# Altium schematic symbol library WR-USB_USB 3.0.SchLib: 11 symbols
Pins are listed as number, name and electrical type; pins without a type are passive.

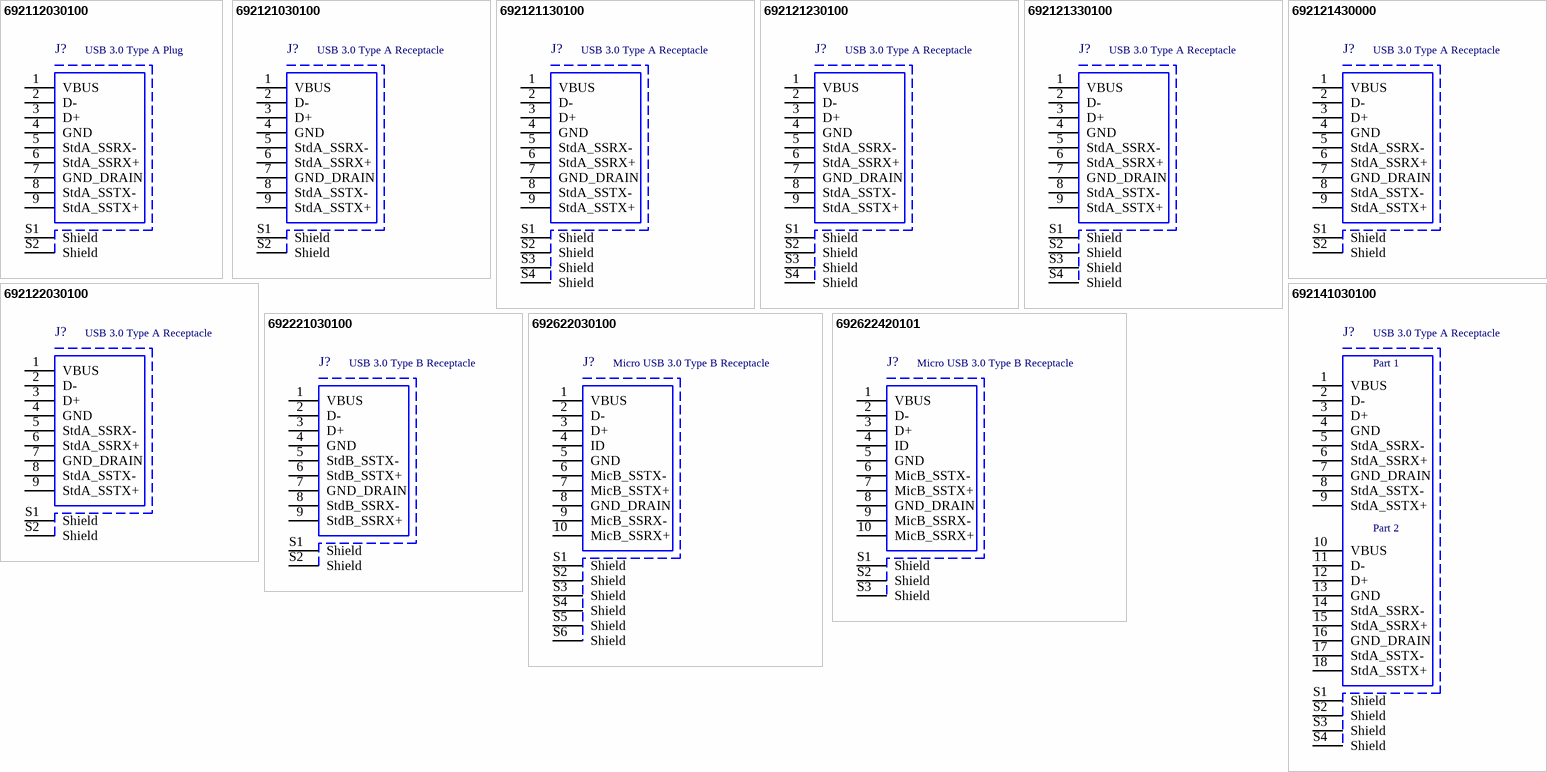
[diagram p0: symbols 692112030100 to 692622420101]

## 692112030100
designator J?, comment USB 3.0 Type A Plug
USB 3.0 Type A, Plug, Horizontal, SMT; Manufacturer: Wurth Elektronik; Manufacturer Part Number: 692112030100; Rated Current: 1.8A; Pin Number: 9; Interface Type: Type A; Working Voltage: 30VAC; ComponentLink1Description: Manufacturer; ComponentLink1URL: http://www.we-online.de; ComponentLink2Description: Datasheet; ComponentLink2URL: https://katalog.we-online.com/em/datasheet/692112030100.pdf; Published Date: September 2019; Gender: Plug; Type: Horizontal; Packaging: Tray; Operating Temperature: -20 to +85degC; Mounting Technology: SMT; Application: USB 3.0
footprint 692112030100
pins: 1 VBUS, 2 D-, 3 D+, 4 GND, 5 StdA_SSRX-, 6 StdA_SSRX+, 7 GND_DRAIN, 8 StdA_SSTX-, 9 StdA_SSTX+, S1 Shield, S2 Shield

## 692121030100
designator J?, comment USB 3.0 Type A Receptacle
USB 3.0 Type A, Receptacle, Horizontal, THT; Manufacturer: Wurth Elektronik; Manufacturer Part Number: 692121030100; Rated Current: 1.8A; Pin Number: 9; Interface Type: Type A; Working Voltage: 30VAC; ComponentLink1Description: Manufacturer; ComponentLink1URL: http://www.we-online.de; ComponentLink2Description: Datasheet; ComponentLink2URL: https://katalog.we-online.com/em/datasheet/692121030100.pdf; Published Date: September 2019; Gender: Receptacle; Type: Horizontal; Packaging: Tape and Reel; Operating Temperature: -20 to +85degC; Mounting Technology: THT; Application: USB 3.0
footprint 692121030100
pins: 1 VBUS, 2 D-, 3 D+, 4 GND, 5 StdA_SSRX-, 6 StdA_SSRX+, 7 GND_DRAIN, 8 StdA_SSTX-, 9 StdA_SSTX+, S1 Shield, S2 Shield

## 692121130100
designator J?, comment USB 3.0 Type A Receptacle
USB 3.0 Type A, Receptacle, Reverse Horizontal, THR, with Offset 0.14mm; Manufacturer: Wurth Elektronik; Manufacturer Part Number: 692121130100; Rated Current: 1.8A; Pin Number: 9; Interface Type: Type A; Working Voltage: 30VAC; ComponentLink1Description: Manufacturer; ComponentLink1URL: http://www.we-online.de; ComponentLink2Description: Datasheet; ComponentLink2URL: https://katalog.we-online.com/em/datasheet/692121130100.pdf; Published Date: September 2019; Gender: Receptacle; Type: Reverse Horizontal; Packaging: Tape and Reel; Operating Temperature: -20 to +85degC; Mounting Technology: THR; Application: USB 3.0
footprint 692121130100
pins: 1 VBUS, 2 D-, 3 D+, 4 GND, 5 StdA_SSRX-, 6 StdA_SSRX+, 7 GND_DRAIN, 8 StdA_SSTX-, 9 StdA_SSTX+, S1 Shield, S2 Shield, S3 Shield, S4 Shield

## 692121230100
designator J?, comment USB 3.0 Type A Receptacle
USB 3.0 Type A, Receptacle, Horizontal, THR, with Offset 1.04mm; Manufacturer: Wurth Elektronik; Manufacturer Part Number: 692121230100; Rated Current: 1.8A; Pin Number: 9; Interface Type: Type A; Working Voltage: 30VAC; ComponentLink1Description: Manufacturer; ComponentLink1URL: http://www.we-online.de; ComponentLink2Description: Datasheet; ComponentLink2URL: https://katalog.we-online.com/em/datasheet/692121230100.pdf; Published Date: September 2019; Gender: Receptacle; Type: Horizontal; Packaging: Tape and Reel; Operating Temperature: -20 to +85degC; Mounting Technology: THR; Application: USB 3.0
footprint 692121230100
pins: 1 VBUS, 2 D-, 3 D+, 4 GND, 5 StdA_SSRX-, 6 StdA_SSRX+, 7 GND_DRAIN, 8 StdA_SSTX-, 9 StdA_SSTX+, S1 Shield, S2 Shield, S3 Shield, S4 Shield

## 692121330100
designator J?, comment USB 3.0 Type A Receptacle
USB 3.0 Type A, Receptacle, Reverse Horizontal, THR, with Offset 1.75mm; Manufacturer: Wurth Elektronik; Manufacturer Part Number: 692121330100; Rated Current: 1.8A; Pin Number: 9; Interface Type: Type A; Working Voltage: 30VAC; ComponentLink1Description: Manufacturer; ComponentLink1URL: http://www.we-online.de; ComponentLink2Description: Datasheet; ComponentLink2URL: https://katalog.we-online.com/em/datasheet/692121330100.pdf; Published Date: September 2019; Gender: Receptacle; Type: Reverse Horizontal; Packaging: Tape and Reel; Operating Temperature: -20 to +85degC; Mounting Technology: THR; Application: USB 3.0
footprint 692121330100
pins: 1 VBUS, 2 D-, 3 D+, 4 GND, 5 StdA_SSRX-, 6 StdA_SSRX+, 7 GND_DRAIN, 8 StdA_SSTX-, 9 StdA_SSTX+, S1 Shield, S2 Shield, S3 Shield, S4 Shield

## 692121430000
designator J?, comment USB 3.0 Type A Receptacle
USB 3.0 Type A, Receptacle, Vertical, THT; Manufacturer: Wurth Elektronik; Manufacturer Part Number: 692121430000; Rated Current: 1.8A; Pin Number: 9; Interface Type: Type A; Working Voltage: 30VAC; ComponentLink1Description: Manufacturer; ComponentLink1URL: http://www.we-online.de; ComponentLink2Description: Datasheet; ComponentLink2URL: https://katalog.we-online.com/em/datasheet/692121430000.pdf; Published Date: September 2019; Gender: Receptacle; Type: Vertical; Packaging: Tray; Operating Temperature: -20 to +85degC; Mounting Technology: THT; Application: USB 3.0
footprint 692121430000
pins: 1 VBUS, 2 D-, 3 D+, 4 GND, 5 StdA_SSRX-, 6 StdA_SSRX+, 7 GND_DRAIN, 8 StdA_SSTX-, 9 StdA_SSTX+, S1 Shield, S2 Shield

## 692122030100
designator J?, comment USB 3.0 Type A Receptacle
USB 3.0 Type A, Receptacle, Horizontal, SMT; Manufacturer: Wurth Elektronik; Manufacturer Part Number: 692122030100; Rated Current: 1.8A; Pin Number: 9; Interface Type: Type A; Working Voltage: 30VAC; ComponentLink1Description: Manufacturer; ComponentLink1URL: http://www.we-online.de; ComponentLink2Description: Datasheet; ComponentLink2URL: https://katalog.we-online.com/em/datasheet/692122030100.pdf; Published Date: September 2019; Gender: Receptacle; Type: Horizontal; Packaging: Tape and Reel; Operating Temperature: -20 to +85degC; Mounting Technology: SMT; Application: USB 3.0
footprint 692122030100
pins: 1 VBUS, 2 D-, 3 D+, 4 GND, 5 StdA_SSRX-, 6 StdA_SSRX+, 7 GND_DRAIN, 8 StdA_SSTX-, 9 StdA_SSTX+, S1 Shield, S2 Shield

## 692141030100
designator J?, comment USB 3.0 Type A Receptacle
USB 3.0 Type A, Receptacle, Horizontal, THR, Dual Stacked; Manufacturer: Wurth Elektronik; Manufacturer Part Number: 692141030100; Rated Current: 1.8A; Pin Number: 18; Interface Type: Type A; Working Voltage: 30VAC; ComponentLink1Description: Manufacturer; ComponentLink1URL: http://www.we-online.de; ComponentLink2Description: Datasheet; ComponentLink2URL: https://katalog.we-online.com/em/datasheet/692141030100.pdf; Published Date: September 2019; Gender: Receptacle; Type: Horizontal; Packaging: Tray; Operating Temperature: -40 to +85degC; Mounting Technology: THR; Application: USB 3.0
footprint 692141030100
pins: 1 VBUS, 2 D-, 3 D+, 4 GND, 5 StdA_SSRX-, 6 StdA_SSRX+, 7 GND_DRAIN, 8 StdA_SSTX-, 9 StdA_SSTX+, 10 VBUS, 11 D-, 12 D+, 13 GND, 14 StdA_SSRX-, 15 StdA_SSRX+, 16 GND_DRAIN, 17 StdA_SSTX-, 18 StdA_SSTX+, S1 Shield, S2 Shield, S3 Shield, S4 Shield
text: Part 1; Part 2

## 692221030100
designator J?, comment USB 3.0 Type B Receptacle
USB 3.0 Type B, Receptacle, Horizontal, THT; Manufacturer: Wurth Elektronik; Manufacturer Part Number: 692221030100; Rated Current: 1.8A; Pin Number: 9; Interface Type: Type B; Working Voltage: 30VAC; ComponentLink1Description: Manufacturer; ComponentLink1URL: http://www.we-online.de; ComponentLink2Description: Datasheet; ComponentLink2URL: https://katalog.we-online.com/em/datasheet/692221030100.pdf; Published Date: September 2019; Gender: Receptacle; Type: Horizontal; Packaging: Tray; Operating Temperature: -20 to +85degC; Mounting Technology: THT; Application: USB 3.0
footprint 692221030100
pins: 1 VBUS, 2 D-, 3 D+, 4 GND, 5 StdB_SSTX-, 6 StdB_SSTX+, 7 GND_DRAIN, 8 StdB_SSRX-, 9 StdB_SSRX+, S1 Shield, S2 Shield

## 692622030100
designator J?, comment Micro USB 3.0 Type B Receptacle
Micro USB 3.0 Type B, Receptacle, Horizontal, SMT; Manufacturer: Wurth Elektronik; Manufacturer Part Number: 692622030100; Rated Current: 1.8A; Pin Number: 10; Interface Type: Type B; Working Voltage: 30VAC; ComponentLink1Description: Manufacturer; ComponentLink1URL: http://www.we-online.de; ComponentLink2Description: Datasheet; ComponentLink2URL: https://katalog.we-online.com/em/datasheet/692622030100.pdf; Published Date: September 2019; Gender: Receptacle; Type: Horizontal; Packaging: Tape and Reel; Operating Temperature: -20 to +85degC; Mounting Technology: SMT; Application: Micro USB 3.0
footprint 692622030100
pins: 1 VBUS, 2 D-, 3 D+, 4 ID, 5 GND, 6 MicB_SSTX-, 7 MicB_SSTX+, 8 GND_DRAIN, 9 MicB_SSRX-, 10 MicB_SSRX+, S1 Shield, S2 Shield, S3 Shield, S4 Shield, S5 Shield, S6 Shield

## 692622420101
designator J?, comment Micro USB 3.0 Type B Receptacle
Micro USB 3.0 Type B, Receptacle, Vertical, SMT; Manufacturer: Wurth Elektronik; Manufacturer Part Number: 692622420101; Rated Current: 1.8A; Pin Number: 10; Interface Type: Type B; Working Voltage: 30VAC; ComponentLink1Description: Manufacturer; ComponentLink1URL: http://www.we-online.de; ComponentLink2Description: Datasheet; ComponentLink2URL: https://katalog.we-online.com/em/datasheet/692622420101.pdf; Published Date: September 2019; Gender: Receptacle; Type: Vertical; Packaging: Tape and Reel; Operating Temperature: -30 to +85degC; Mounting Technology: SMT; Application: Micro USB 3.0
footprint 692622420101
pins: 1 VBUS, 2 D-, 3 D+, 4 ID, 5 GND, 6 MicB_SSTX-, 7 MicB_SSTX+, 8 GND_DRAIN, 9 MicB_SSRX-, 10 MicB_SSRX+, S1 Shield, S2 Shield, S3 Shield